# Altium integrated library Unified diodes.IntLib: 7 symbols
Pins are listed as number, name and electrical type; pins without a type are passive.

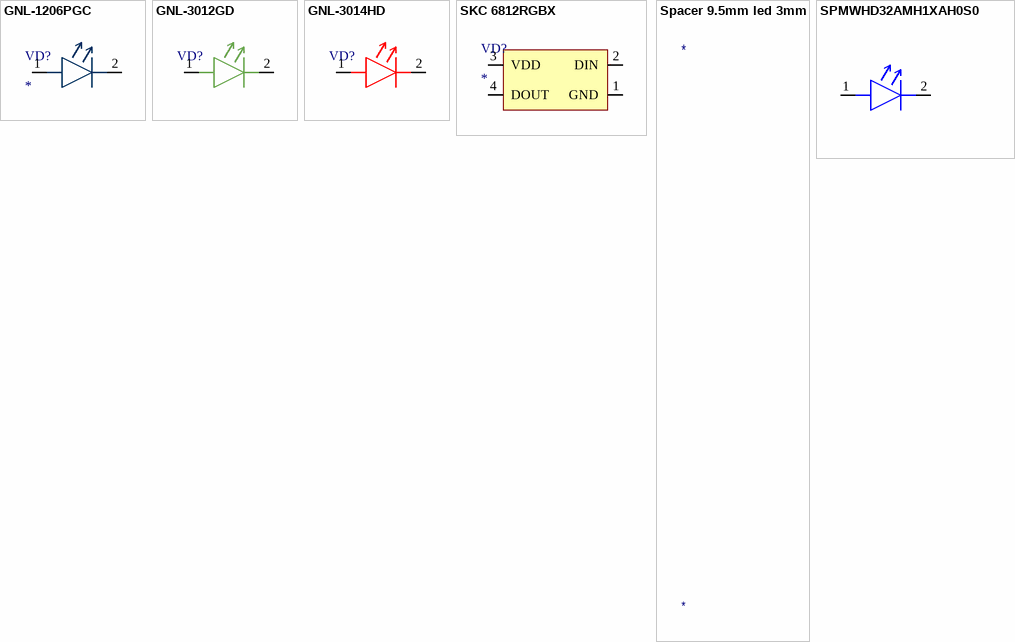
[diagram p0: symbols GNL-1206PGC to SPMWHD32AMH1XAH0S0]

## GNL-1206PGC
designator VD?
1206 LED GNL-1206PGC; Peak wavelenght: 525nm; Vf: 3.4V; If: 30mA; operation temperature: -40 to +80 ℃
footprint 1206 SMD TYPE (GNL-1206PGC)
pins: 1 DIN, 2 DOUT

## GNL-3012GD
designator VD?
Green Led 3mm; Peak wavelenght: 525nm; Vf: 3.4V; If: 30mA; operation temperature: -40 to +80 ℃; ID: GNL-3012GD
footprint LED 3mm THT grey
pins: 1 DIN, 2 DOUT

## GNL-3014HD
designator VD?
Red Led 3mm; Peak wavelenght: 525nm; Vf: 3.4V; If: 30mA; operation temperature: -40 to +80 ℃; ID: GNL-3012GD
footprint LED 3mm THT grey
pins: 1 DIN, 2 DOUT

## SKC 6812RGBX
designator VD?
intelligent external control LED light source,
footprint 5.0x4.8x1.6 mm
pins: 1 GND, 2 DIN, 3 VDD, 4 DOUT

## Spacer 9.5mm led 3mm
designator *
Parameter 1: *
footprint Spacer 9.5mm led 3mm

## SPMWHD32AMH1XAH0S0
designator VD?  (value not drawn)
Hacriculture led midpower 0W3-0W5; Value: 135 мА; Valuel: 2.85 В; ID: SPMWHD32AMH1XAH0S0
footprint SPMWHD32AMH1XAH0S0
pins: 1 DIN, 2 DOUT


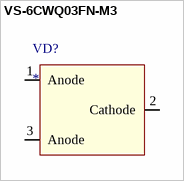
[diagram p1: symbol VS-6CWQ03FN-M3]

## VS-6CWQ03FN-M3
designator VD?
Common cathode, schottky diode; Vf(max): 0.52; If(per leg): 3.5A; Tj (max): 150°C; Vr: 30V
footprint D-PAK / TO-252AA
pins: 1 Anode, 2 Cathode, 3 Anode